# Altium integrated library BH1750FVI-TR.IntLib: 1 symbol
Pins are listed as number, name and electrical type; pins without a type are passive.

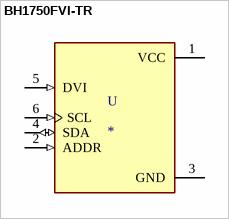
[diagram p0: symbol BH1750FVI-TR]

## BH1750FVI-TR
designator U
Optical Sensor Ambient 560nm IÂ²C 6-SMD, Flat Lead Exposed Pad; MF: Rohm; MP: BH1750FVI-TR; SnapEDA_Link: https://www.snapeda.com/parts/BH1750FVI-TR/Rohm/view-part/106507/?ref=snap; Price: None; Value: *; Availability: Unavailable; Package: SMD-6 Rohm
footprint XDCR_BH1750FVI-TR
pins: 1 VCC (power), 2 ADDR (in), 3 GND (power), 4 SDA (io), 5 DVI (in), 6 SCL (in)